# Altium footprint library TIDA-00555_E2.PcbLib: 37 footprints (part 1 of 3)
Each footprint in its own frame and in the unit in brackets; x right, y up, seen from the top. Pads: shape width x height; smd on the part's side, far side on the other; paste and mask are expansions set on the pad; w line width, h text height; cw(c..) or ccw(c..) is an arc to the next point about the centre after c.
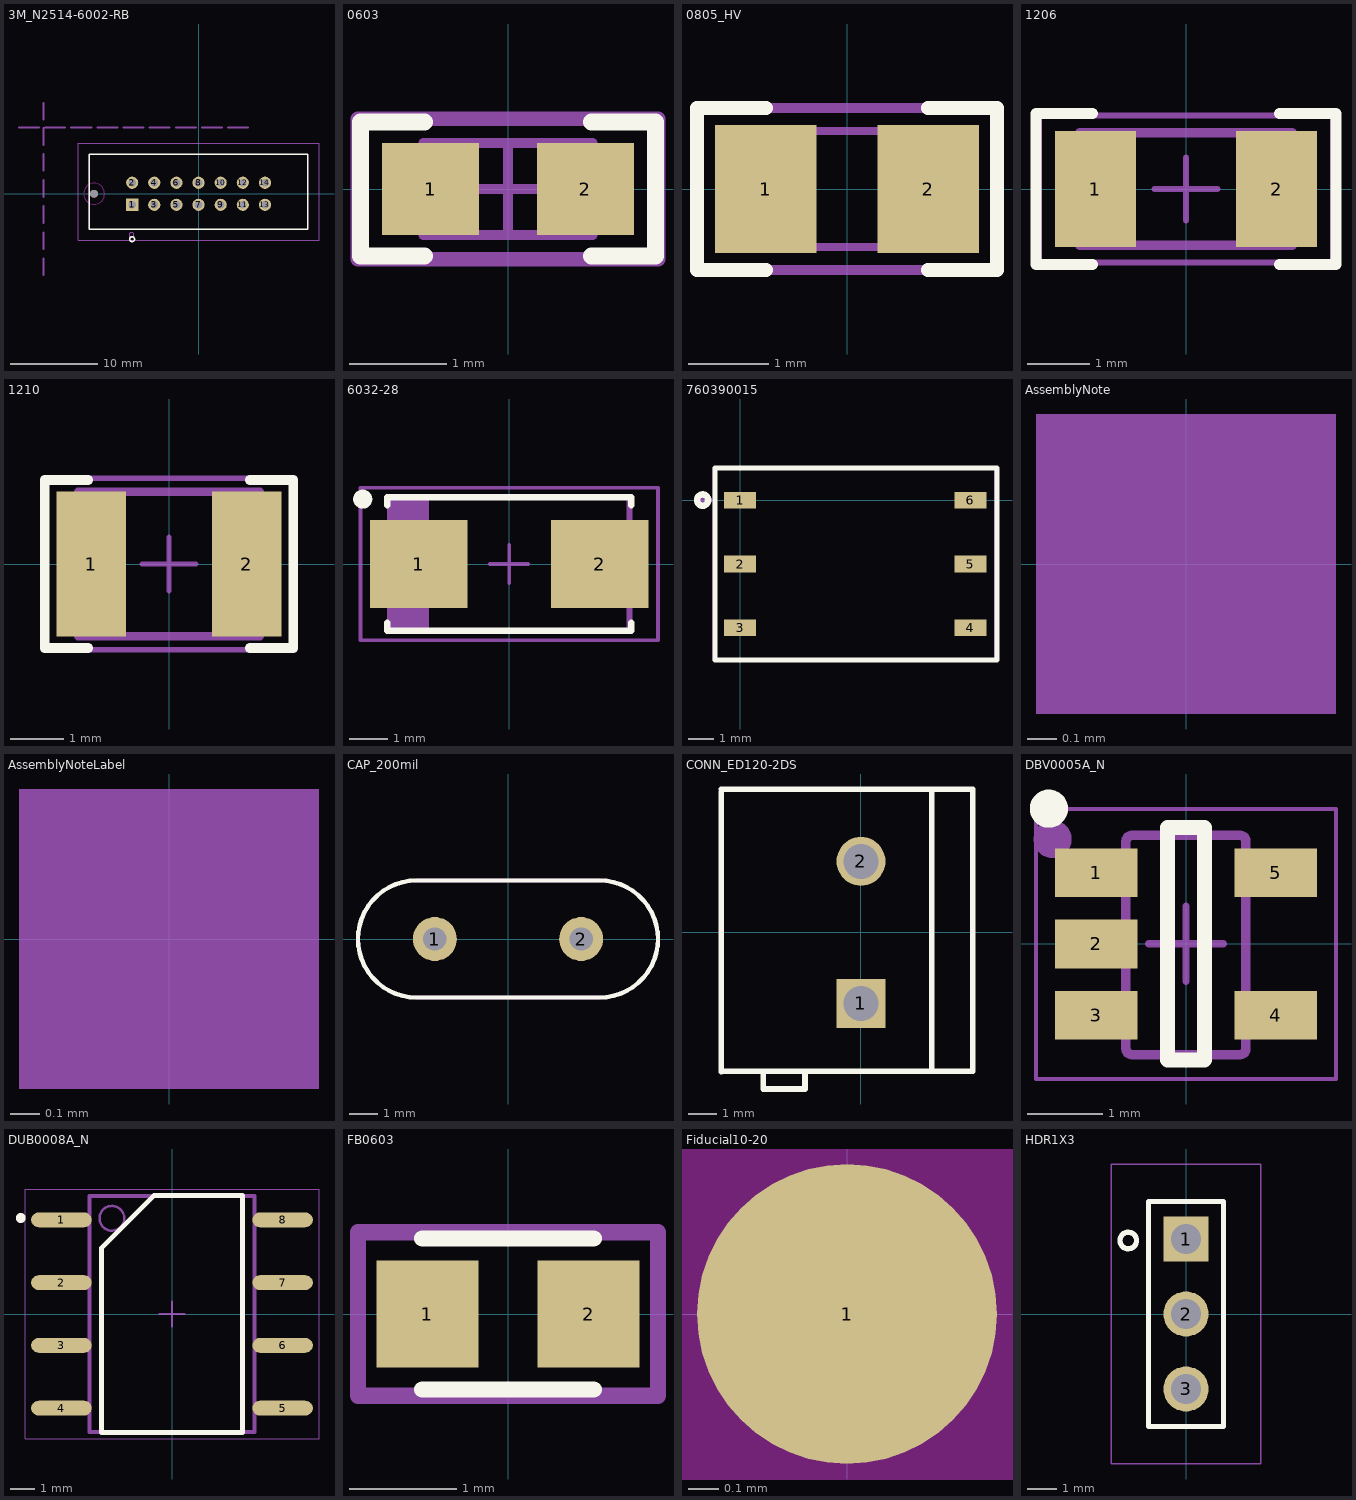
[diagram p0: the footprints below, top view; thin cyan lines are the x and y axes]

## 3M_N2514-6002-RB [mm] "CONN, HEADER, 14 POS, STRGHT GOLD"
height 9.91
pads (15):
  rect 1.4x1.4 / inner round 1.4 / far side rect 1.4x1.4 hole 0.889: 1(-7.62,-1.27)
  round 1.4 hole 0.889: 2(-7.62,1.27) 3(-5.08,-1.27) 4(-5.08,1.27) 5(-2.54,-1.27) 6(-2.54,1.27) 7(0,-1.27) 8(0,1.27) 9(2.54,-1.27) 10(2.54,1.27) 11(5.08,-1.27) 12(5.08,1.27) 13(7.62,-1.27) 14(7.62,1.27)
  round 0.889 hole 0.889 unplated mask+0.127: ""(-11.99,0)
Top Overlay:
  circle w0.178: c-7.62,-5.207 r0.279
  lines w0.178: -12.55,-4.07 12.55,-4.07 12.55,4.52 -12.55,4.52 -12.55,-4.07
Bottom Overlay:
  lines w0.178: -12.573,-4.07 -11.427,-4.07 ; -12.55,-4.07 -12.55,-3.023 ; -12.55,-2.413 -12.55,-1.499 ; -12.55,1.524 -12.55,2.438 ; -12.55,3 -12.55,4.52 -10.287,4.52 ; -10.713,-4.07 -8.427,-4.07 ; -9.573,4.52 -7.287,4.52 ; -9.446,4.52 -7.16,4.52 ; -7.713,-4.07 -5.427,-4.07 ; -6.446,4.52 -4.16,4.52 ; -4.713,-4.07 -2.427,-4.07 ; -3.446,4.52 -1.16,4.52 ; -1.713,-4.07 0.573,-4.07 ; -0.446,4.52 1.84,4.52 ; 1.287,-4.07 3.573,-4.07 ; 2.554,4.52 4.84,4.52 ; 4.287,-4.07 6.573,-4.07 ; 5.554,4.52 7.84,4.52 ; 7.287,-4.07 9.573,-4.07 ; 8.554,4.52 10.84,4.52 ; 10.287,-4.07 12.55,-4.07 12.55,-3.071 ; 11.43,4.52 12.55,4.52 12.55,3 ; 12.55,-1.953 12.55,-0.658 ; 12.55,0.46 12.55,1.755
Mechanical 5:
  circle w0.127: c-7.696,-4.724 r0.279
  lines w0.127: -12.55,-4.07 -12.55,4.52 12.55,4.52 12.55,-4.07 -12.55,-4.07
  text ".Designator" at 0.229,0.635 h0.76
Mechanical 15:
  lines w0.05: -13.82,-5.34 -13.82,5.79 13.82,5.79 13.82,-5.34 -13.82,-5.34
Mechanical 16:
  lines w0.254: -20.605,7.62 -18.319,7.62 ; -17.78,-9.333 -17.78,-7.428 ; -17.78,-6.333 -17.78,-4.428 ; -17.78,-3.333 -17.78,-1.428 ; -17.78,-0.333 -17.78,1.572 ; -17.78,2.667 -17.78,4.572 ; -17.78,5.603 -17.78,7.508 ; -17.78,8.524 -17.78,10.429 ; -17.605,7.62 -15.319,7.62 ; -14.605,7.62 -12.319,7.62 ; -11.605,7.62 -9.319,7.62 ; -8.605,7.62 -6.319,7.62 ; -5.605,7.62 -3.319,7.62 ; -2.605,7.62 -0.319,7.62 ; 0.395,7.62 2.681,7.62 ; 3.395,7.62 5.681,7.62
Multi-Layer keep-out:
  circle w0.025: c-11.99,0 r1.206
Mechanical 17:
  text "DRILL TOLERANCE FOR NPTH HOLE IS +/-3 MIL" at -20.9,0.65 h1
  text "LEAD LENGTH: 2.84 MM" at -7.874,-3.429 h1
  text "RECOMMENDED BOARD THICKNESS: 62 MIL" at -16.637,2.413 h1
  text "MIN SIDE STACKABLE DISTANCE" at -47.498,7.239 h1
  text "MIN END STACKABLE DISTANCE" at -18.288,-11.049 h1
3D body: height 9.91, standoff 0, extent -12.55,-4.07 12.55,4.52

## 0603 [mm] "0603 from SM-752 data"
height 0.85
pads (2):
  rect 1x0.95 smd mask+0.102: 1(-0.8,0) 2(0.8,0)
Top Overlay:
  lines w0.178: -0.864,-0.691 -1.524,-0.691 -1.524,0.693 -0.864,0.693 ; 0.864,-0.691 1.524,-0.691 1.524,0.693 0.864,0.693
Mechanical 5:
  lines w0.152: -1.55,-0.725 1.55,-0.725 1.55,0.725 -1.55,0.725 -1.55,-0.725
  text ".Designator" at -0.991,-0.381 h0.76
Mechanical 13:
  lines w0.1: -0.55,-0.475 -0.55,0.475 ; 0.55,-0.475 0.55,0.475 ; -0.875,-0.475 -0.875,0.475 0.875,0.475 0.875,-0.475 -0.875,-0.475
Mechanical 15:
  lines w0.1: -0.475,0 0.475,0 ; 0,-0.475 0,0.475 ; -1.55,-0.725 -1.55,0.725 1.55,0.725 1.55,-0.725 -1.55,-0.725
3D body: height 0.85, standoff 0, extent 0.551,-0.474 0.874,0.474
3D body: height 0.85, standoff 0, extent -0.549,-0.474 0.549,0.474
3D body: height 0.85, standoff 0, extent -0.874,-0.474 -0.551,0.474

## 0805_HV [mil] "0805 with 30mil clearance between pads"
height 43.31
pads (2):
  rect 50x63 smd mask+4: 1(-40,0) 2(40,0)
Top Overlay:
  lines w7: -40,-40 -74,-40 -74,0 -74,40 -40,40 ; 40,-40 74,-40 74,0 74,40 40,40
Mechanical 5:
  lines w5: -74,-40 -74,40 74,40 74,-40 -74,-40
  text ".Designator" at 30,17 h30
Mechanical 13:
  lines w3.94: -25.59,-28.54 -25.59,28.54 ; 25.59,-28.54 25.59,28.54 ; -43.31,-28.54 43.31,-28.54 43.31,28.54 -43.31,28.54 -43.31,-28.54
3D body: height 43.31, standoff 0, extent -43.29,-28.52 -25.61,28.52
3D body: height 43.31, standoff 0, extent -25.57,-28.52 25.57,28.52
3D body: height 43.31, standoff 0, extent 25.61,-28.52 43.29,28.52

## 1206 [mm] "1206 from SM-752 data"
height 1.35
pads (2):
  rect 1.3x1.85 smd mask+0.102: 1(-1.45,0) 2(1.45,0)
Top Overlay:
  lines w0.178: -1.5,-1.21 -2.4,-1.21 -2.4,1.21 -1.5,1.21 ; 1.5,-1.21 2.4,-1.21 2.4,1.21 1.5,1.21
Mechanical 5:
  lines w0.152: -1.7,-0.9 1.7,-0.9 1.7,0.9 -1.7,0.9 -1.7,-0.9
  text ".Designator" at -1.143,-0.457 h0.76
Mechanical 13:
  lines w0.1: -1.2,-0.9 -1.2,0.9 ; 1.2,-0.9 1.2,0.9 ; 1.7,-0.9 -1.7,-0.9 -1.7,0.9 1.7,0.9
  lines w0.152: 1.7,-0.9 1.7,0.9
Mechanical 15:
  lines w0.1: -0.5,0 0.5,0 ; 0,-0.5 0,0.5 ; -2.35,-1.175 2.35,-1.175 2.35,1.175 -2.35,1.175 -2.35,-1.175
3D body: height 1.35, standoff 0, extent -1.699,-0.899 -1.201,0.899
3D body: height 1.35, standoff 0, extent -1.199,-0.899 1.199,0.899
3D body: height 1.35, standoff 0, extent 1.201,-0.899 1.699,0.899

## 1210 [mm] "1210 from SM-752 data"
height 1.35
pads (2):
  rect 1.3x2.7 smd mask+0.102: 1(-1.45,0) 2(1.45,0)
Top Overlay:
  lines w0.178: -1.511,-1.568 -2.316,-1.568 -2.316,1.568 -1.511,1.568 ; 1.511,-1.568 2.316,-1.568 2.316,1.568 1.511,1.568
Mechanical 5:
  lines w0.152: -1.7,-1.35 -1.7,1.35 1.7,1.35 1.7,-1.35 -1.7,-1.35
  text ".Designator" at -1.016,-0.508 h0.76
Mechanical 13:
  lines w0.1: -1.2,-1.35 -1.2,1.35 ; 1.2,-1.35 1.2,1.35 ; -1.7,-1.35 1.7,-1.35 1.7,1.35 -1.7,1.35 -1.7,-1.35
Mechanical 15:
  lines w0.1: -0.5,0 0.5,0 ; 0,-0.5 0,0.5 ; -2.35,-1.6 2.35,-1.6 2.35,1.6 -2.35,1.6 -2.35,-1.6
3D body: height 1.35, standoff 0, extent 1.201,-1.349 1.699,1.349
3D body: height 1.35, standoff 0, extent -1.199,-1.349 1.199,1.349
3D body: height 1.35, standoff 0, extent -1.699,-1.349 -1.201,1.349

## 6032-28 [mm] "Medium Density IPC based on Vishay Sprague 293D datasheet."
height 2.8
pads (2):
  rect 2.55x2.3 smd mask+0.102: 1(-2.375,0) 2(2.375,0)
Top Overlay:
  circle w0.25: c-3.839,1.7 r0.125
  lines w0.178: -3.2,-1.539 -3.2,-1.75 3.2,-1.75 3.2,-1.539 ; -3.2,1.539 -3.2,1.75 3.2,1.75 3.2,1.539
Mechanical 5:
  rectangle: -3.15,-1.75 -2.15,1.75
  lines w0.1: -3.15,-1.75 -3.15,1.75 ; -2.15,-1.75 -2.15,1.75
  lines w0.152: -3.15,-1.75 3.15,-1.75 3.15,1.75 -3.15,1.75
  text ".Designator" at -1.295,-0.406 h0.76
Mechanical 15:
  lines w0.1: -0.5,0 0.5,0 ; 0,-0.5 0,0.5 ; -3.9,-2 -3.9,2 3.9,2 3.9,-2 -3.9,-2
3D body: height 2.8, standoff 2.8, extent -3.149,-1.749 -2.151,1.749
3D body: height 2.8, standoff 0, extent -3.15,-1.75 3.15,1.75

## 760390015 [mm]
pads (6):
  rect 1.27x0.66 smd mask+0.102: 1(0,0) 2(0,-2.54) 3(0,-5.08) 4(9.14,-5.08) 5(9.14,-2.54) 6(9.14,0)
Top Overlay:
  circle w0.254: c-1.494,0 r0.224
  lines w0.2: -1,-6.35 10.2,-6.35 10.2,1.27 -1,1.27 -1,-6.35
Mechanical 5:
  circle w0.254: c-1.397,0 r0.127
  lines w0.152: -1.016,-6.35 -1.016,1.27 10.16,1.27 10.16,-6.35 -1.016,-6.35
  text ".designator" at 4.953,-1.905 h0.76
3D body: height 4.2, standoff 0.2, extent -1,-6.4 10.2,1.2

## AssemblyNote [mm] "Assembly Note"
Mechanical 5:
  rectangle: -0.508,-0.508 0.508,0.508
  text ".Designator" at -4.191,-0.508 h0.76
  text ".Comment" at 1.143,-0.508 h0.76

## AssemblyNoteLabel [mm] "Assembly Note for PCB Labels"
Mechanical 5:
  rectangle: -0.508,-0.508 0.508,0.508
  text ".Designator" at -4.191,-0.508 h0.76
  text "Install label in silkscreened box after final wash.  Text shall be 8 pt font.  Text shall be per the Label Table in the PDF schematic." at 1.143,-0.508 h0.76

## CAP_200mil [mil]
pads (2):
  round 60 hole 32 mask+5: 1(-100,0)
  round 60 hole 32 mask+4: 2(100,0)
Top Overlay:
  lines w6: -125,-80 cw(c-125,0) -125,80 125,80 cw(c125,0) 125,-80 -125,-80
Mechanical 5:
  lines w5: -125,-80 cw(c-125,0) -125,80 125,80 cw(c125,0) 125,-80 -125,-80
  text ".Designator" at -15,40 h30

## CONN_ED120-2DS [mm] "ONSHORE"
height 13
pads (2):
  rect 1.75x1.75 hole 1.25: 1(0,-2.54)
  round 1.75 hole 1.25: 2(0,2.54)
Top Overlay:
  lines w0.2: -5,-4.985 -5,5.015 ; -5,-4.96 4,-4.96 ; -5,5.115 4,5.115 4,-4.885 ; -3.5,-4.96 -3.5,-5.6 -2,-5.6 -2,-4.96 ; 2.525,-4.95 2.525,5.05
Mechanical 5:
  lines w0.1: -3.5,-4.96 -3.5,-5.6 -2,-5.6 -2,-4.96
  lines w0.152: -5,-4.96 4,-4.96 ; -5,-4.885 -5,5.115 4,5.115 4,-4.885 ; 2.525,-4.875 2.525,5.125
  text ".Designator" at -1.118,0.889 h0.76
3D body: height 13, standoff 0, extent -5,-4.985 4,5.115
3D body: height 13.1, standoff -2.5, extent -0.496,-3.039 0.5,-2.041
3D body: height 13.1, standoff -2.5, extent -0.496,2.041 0.5,3.039
3D body: height 5.7, standoff 4.3, extent -0.85,1.846 4.15,3.24
3D body: height 5.7, standoff 4.3, extent -0.875,-3.204 4.125,-1.81
3D body: height 13, standoff 0, extent -3.5,-5.6 -2,-4.925

## DBV0005A_N [mm] "SOT23, 5-Leads, Body 2.9x1.6mm, Pitch 0.95mm, Lead Span 2.8mm, IPC Medium Density"
height 1.45
pads (5):
  rect 1.1x0.65 smd mask+0.102: 1(-1.2,0.95) 2(-1.2,0) 3(-1.2,-0.95) 4(1.2,-0.95) 5(1.2,0.95)
Top Overlay:
  circle w0.254: c-1.829,1.803 r0.127
  lines w0.2: -0.25,-1.55 0.25,-1.55 0.25,1.55 -0.25,1.55 -0.25,-1.55
Mechanical 5:
  circle w0.254: c-1.778,1.397 r0.127
  lines w0.127: -0.801,1.371 cw(c-0.725,1.37) -0.725,1.446 ; -0.801,1.37 -0.801,-1.399 -0.801,-1.4 ccw(c-0.725,-1.399) -0.725,-1.475 ; -0.801,1.37 -0.801,1.371 ; -0.725,-1.475 -0.725,-1.475 ; -0.725,-1.475 0.723,-1.475 0.724,-1.475 ccw(c0.723,-1.399) 0.799,-1.4 0.799,-1.399 0.799,1.37 ; -0.725,1.446 0.723,1.446 0.724,1.446 cw(c0.723,1.37) 0.799,1.371 ; -0.725,1.446 -0.725,1.446 ; 0.799,1.37 0.799,1.371 ; -1.423,-1.167 -1.199,-1.167 -1.105,-1.167 -1.088,-1.167 -0.835,-1.167 -0.801,-1.167 -0.801,-0.767 -0.835,-0.767 -1.088,-0.767 -1.105,-0.767 -1.199,-0.767 -1.423,-0.767 -1.423,-1.167 ; -1.423,-0.215 -1.199,-0.215 -1.105,-0.215 -1.088,-0.215 -0.835,-0.215 -0.801,-0.215 -0.801,0.186 -0.835,0.186 -1.088,0.186 -1.105,0.186 -1.199,0.186 -1.423,0.186 -1.423,-0.215 ; -1.423,0.738 -1.199,0.738 -1.105,0.738 -1.088,0.738 -0.835,0.738 -0.801,0.738 -0.801,1.138 -0.835,1.138 -1.088,1.138 -1.105,1.138 -1.199,1.138 -1.423,1.138 -1.423,0.738 ; 0.799,-1.167 0.799,-0.767 0.834,-0.767 1.087,-0.767 1.103,-0.767 1.198,-0.767 1.422,-0.767 1.422,-1.167 1.198,-1.167 1.103,-1.167 1.087,-1.167 0.834,-1.167 0.799,-1.167 ; 0.799,0.738 0.799,1.138 0.834,1.138 1.087,1.138 1.103,1.138 1.198,1.138 1.422,1.138 1.422,0.738 1.198,0.738 1.103,0.738 1.087,0.738 0.834,0.738 0.799,0.738
  text ".Designator" at 0.432,-0.635 h0.76
Mechanical 15:
  lines w0.05: -2,-1.8 -2,1.8 2,1.8 2,-1.8 -2,-1.8
  lines w0.1: -0.5,0 0.5,0 ; 0,-0.5 0,0.5
3D body: height 1.08, standoff -0.01, extent -1.422,-1.461 1.422,1.46

## DUB0008A_N [mm] "SOP, 8-Leads, Body 9.5x6.62mm, Pitch 2.54mm, IPC Medium Density"
height 4.85
pads (8):
  oval 2.45x0.6 smd mask+0.102: 1(-4.475,3.81) 2(-4.475,1.27) 3(-4.475,-1.27) 4(-4.475,-3.81) 5(4.475,-3.81) 6(4.475,-1.27) 7(4.475,1.27) 8(4.475,3.81)
Top Overlay:
  circle w0.254: c-6.121,3.886 r0.072
  lines w0.2: -2.85,-4.8 -2.85,2.675 -0.725,4.8 2.85,4.8 2.85,-4.8 -2.85,-4.8
Mechanical 5:
  circle w0.1: c-2.435,3.875 r0.5
  lines w0.152: -3.335,-4.775 -3.335,4.775 3.335,4.775 3.335,-4.775 -3.335,-4.775
  text ".Designator" at 0.508,-0.99 h0.76
Mechanical 15:
  lines w0.05: -5.95,-5.05 -5.95,5.05 5.95,5.05 5.95,-5.05 -5.95,-5.05
  lines w0.1: -0.5,0 0.5,0 ; 0,-0.5 0,0.5
3D body: height 4.85, standoff 0.38, extent -3.335,-4.775 3.335,4.775
3D body: height 4.85, standoff 4, extent -2.944,3.366 -1.926,4.384

## FB0603 [mm]
height 0.95
pads (2):
  rect 0.95x1 smd mask+0.102: 1(-0.75,0) 2(0.75,0)
Top Overlay:
  lines w0.152: -0.8,-0.703 0.8,-0.703 ; -0.8,0.703 0.8,0.703
Mechanical 5:
  lines w0.152: -1.397,-0.762 1.397,-0.762 1.397,0.127 1.397,0.762 -1.397,0.762 -1.397,-0.762
  text ".designator" at 0.889,0.381 h0.76
Mechanical 15:
  lines w0.025: -0.8,-0.4 -0.8,0.4 ; 0.8,-0.4 0.8,0.4
  lines w0.1: -0.8,-0.4 -0.8,0.4

## Fiducial10-20 [mm]
height 11.3
pads (1):
  round 1 smd mask+0.5: 1(0,0)
Top Layer keep-out:
  circle w1.178: c0,0 r0.5

## HDR1X3 [mil] "HDR1X3"
pads (3):
  rect 60x60 / inner round 60 / far side rect 60x60 hole 40: 1(0,100)
  round 60 hole 40: 2(0,0) 3(0,-100)
Top Overlay:
  circle w7: c-77,98 r11
  lines w7: -50,-150 -50,150 50,150 50,-150 -50,-150
Bottom Overlay:
  lines w7: -50.48,-112.48 -50.48,-73.11 ; -50,-18.11 -50,21.26 ; -50,60.63 -50,100 ; -50,150 25,150 ; -47.89,-149.86 2.11,-149.86 ; 39.37,-150.58 50,-150.58 50,-118.69 ; 50,-66.06 50,-26.68 ; 50,21.26 50,60.63 ; 50,100 50,150
Mechanical 5:
  circle w5: c-77,98 r11
  lines w6: -50,-150 50,-150 50,150 -50,150 -50,-150
  text ".Designator" at -24,-20 h30
Mechanical 15:
  lines w1.97: -100,-200 100,-200 100,200 -100,200 -100,-200
3D body: height 1, standoff 0, extent -50,-150 50,150